# Altium schematic symbol library LED3528.SchLib: 1 symbol
Pins are listed as number, name and electrical type; pins without a type are passive.

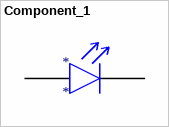
[diagram p0: symbol Component_1]

## Component_1
designator *
pins: 1 Anode "VSS", 2 Cathode "VSS"